# Altium schematic symbol library Mechanical.SchLib: 4 symbols
Pins are listed as number, name and electrical type; pins without a type are passive.

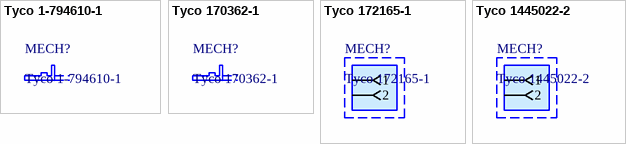
[diagram p0: symbols Tyco 1-794610-1 to Tyco 1445022-2]

## Tyco 1-794610-1
designator MECH?  (mechanical)
Tyco MateNLock T; Supplier 1: Mouser; Supplier Part Number 1: 571-1-794610-1

## Tyco 170362-1
designator MECH?  (mechanical)
Tyco MateNLock Universal T; Supplier 1: Mouser; Supplier Part Number 1: 571-1703621

## Tyco 172165-1
designator MECH?  (mechanical)
Tyco MateNLock Universal WH; Supplier 1: Mouser; Supplier Part Number 1: 571-1721651
pins: 1, 2

## Tyco 1445022-2
designator MECH?  (mechanical)
Tyco MateNLock WH; Supplier 1: Mouser; Supplier Part Number 1: 571-14450222
pins: 1, 2